# Altium schematic symbol library 2.54HeaderJumper.SchLib: 1 symbol
Pins are listed as number, name and electrical type; pins without a type are passive.

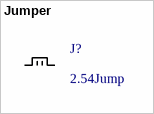
[diagram p0: symbol Jumper]

## Jumper
designator J?, comment 2.54Jump
WM23943-ND
footprint Jumper
pins: 1, 2